# Altium schematic symbol library V6_2.schlib: 5 symbols
Pins are listed as number, name and electrical type; pins without a type are passive.

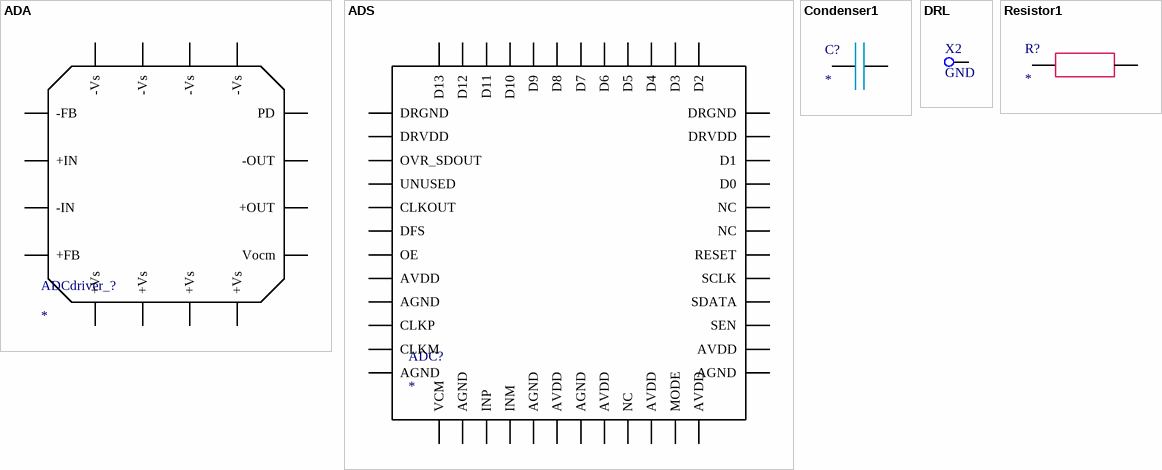
[diagram p0: symbols ADA to Resistor1]

## ADA
designator ADCdriver_?
footprint OPA
pins: 1 -FB, 2 +IN, 3 -IN, 4 +FB, 5 +Vs, 6 +Vs, 7 +Vs, 8 +Vs, 9 Vocm, 10 +OUT, 11 -OUT, 12 PD, 13 -Vs, 14 -Vs, 15 -Vs, 16 -Vs

## ADS
designator ADC?
footprint asdsadas
pins: 1 DRGND, 2 DRVDD, 3 OVR_SDOUT, 4 UNUSED, 5 CLKOUT, 6 DFS, 7 OE, 8 AVDD, 9 AGND, 10 CLKP, 11 CLKM, 12 AGND, 13 VCM, 14 AGND, 15 INP, 16 INM, 17 AGND, 18 AVDD, 19 AGND, 20 AVDD, 21 NC, 22 AVDD, 23 MODE, 24 AVDD, 25 AGND, 26 AVDD, 27 SEN, 28 SDATA, 29 SCLK, 30 RESET, 31 NC, 32 NC, 33 D0, 34 D1, 35 DRVDD, 36 DRGND, 37 D2, 38 D3, 39 D4, 40 D5, 41 D6, 42 D7, 43 D8, 44 D9, 45 D10, 46 D11, 47 D12, 48 D13

## Condenser1
designator C?
footprint con
pins: 1, 2

## DRL
designator X2, comment GND
footprint DRL10
pins: DRIL

## Resistor1
designator R?
footprint Rezistor
pins: 1, 2